# Altium footprint library Altium LCOGT PCB LIB.PCBLIB: 329 footprints (part 7 of 21)
Each footprint in its own frame and in the unit in brackets; x right, y up, seen from the top. Pads: shape width x height; smd on the part's side, far side on the other; paste and mask are expansions set on the pad; w line width, h text height; cw(c..) or ccw(c..) is an arc to the next point about the centre after c.
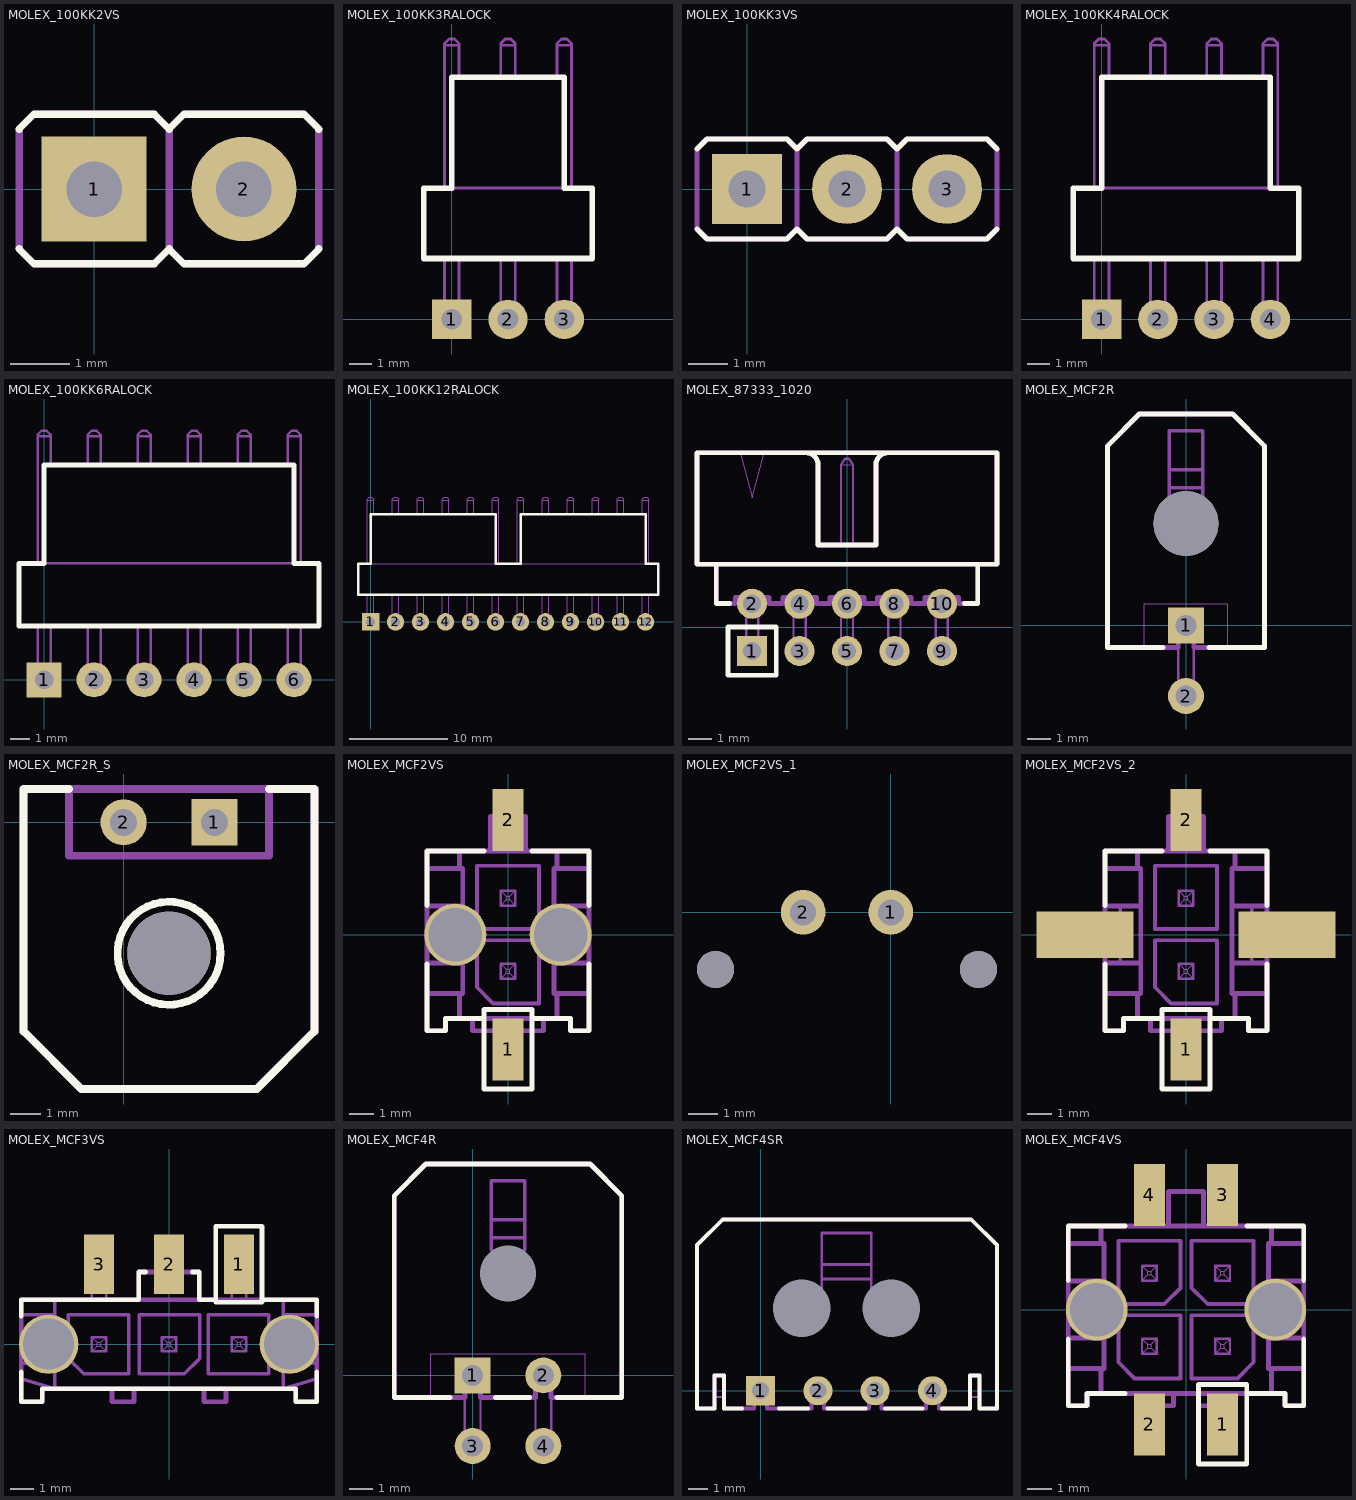
[diagram p6: the footprints below, top view; thin cyan lines are the x and y axes]

## MOLEX_100KK2VS [mil] "Molex KK header 2P 0.100 VERT"
pads (2):
  rect 70x70 hole 37: 1(0,0)
  round 70 hole 37: 2(100,0)
TopOverlay:
  lines w5: -50,-40 -40,-50 40,-50 50,-40 60,-50 140,-50 150,-40 ; -50,40 -40,50 40,50 50,40 60,50 140,50 150,40
Mechanical3:
  lines w5: 50,-40 50,40 ; 50,-40 40,-50 -40,-50 -50,-40 -50,0 -50,40 -40,50 40,50 50,40 ; 50,-40 60,-50 140,-50 150,-40 150,40 140,50 60,50 50,40

## MOLEX_100KK3RALOCK [mil] "Molex KK header 3P 0.100 R/A LOCK"
pads (3):
  rect 70x70 hole 37: 1(0,0)
  round 70 hole 37: 2(100,0) 3(200,0)
TopOverlay:
  lines w10: -50,108 -50,233 0,233 0,430 200,430 200,233 250,233 250,108 -50,108
Mechanical3:
  lines w5: -13,0 -13,108 ; -13,487 13,487 ; 0,233 0,430 200,430 200,233 ; 13,0 13,108 ; 13,430 13,484 13,490 5,498 0,498 -5,498 -13,490 -13,484 -13,233 ; 87,0 87,108 ; 87,430 87,484 87,490 95,498 100,498 105,498 113,490 113,484 113,430 ; 87,487 113,487 ; 113,0 113,108 ; 187,0 187,108 ; 187,430 187,484 187,490 195,498 200,498 205,498 213,490 213,484 213,233 ; 187,487 213,487 ; 213,0 213,108 ; -13,108 -50,108 -50,233 -13,233 ; -13,108 -3,108 4,108 14,108 87,108 ; -13,233 -3,233 87,233 97,233 113,233 123,233 250,233 250,108 123,108 113,108 ; 87,108 97,108 113,108

## MOLEX_100KK3VS [mil] "Molex KK header 3P 0.100 VERT"
pads (3):
  rect 70x70 hole 37: 1(0,0)
  round 70 hole 37: 2(100,0) 3(200,0)
TopOverlay:
  lines w5: -50,-40 -40,-50 40,-50 50,-40 60,-50 140,-50 150,-40 160,-50 240,-50 250,-40 ; -50,40 -40,50 40,50 50,40 60,50 140,50 150,40 160,50 240,50 250,40
Mechanical3:
  lines w5: 50,-40 50,40 ; 50,-40 40,-50 -40,-50 -50,-40 -50,0 -50,40 -40,50 40,50 50,40 ; 50,-40 60,-50 140,-50 150,-40 ; 50,40 60,50 140,50 150,40 ; 150,-40 160,-50 240,-50 250,-40 250,40 240,50 160,50 150,40 ; 150,-40 150,40 ; 150,-40 150,40

## MOLEX_100KK4RALOCK [mil] "Molex KK header 4P 0.100 R/A LOCK"
pads (4):
  rect 70x70 hole 37: 1(0,0)
  round 70 hole 37: 2(100,0) 3(200,0) 4(300,0)
TopOverlay:
  lines w10: -50,108 -50,233 0,233 0,430 300,430 300,233 350,233 350,108 -50,108
Mechanical3:
  lines w5: -13,0 -13,108 ; -13,487 13,487 ; 0,233 0,430 300,430 300,233 ; 13,0 13,108 ; 13,430 13,484 13,490 5,498 0,498 -5,498 -13,490 -13,484 -13,233 ; 87,0 87,108 ; 87,430 87,484 87,490 95,498 100,498 105,498 113,490 113,484 113,430 ; 87,487 113,487 ; 113,0 113,108 ; 187,0 187,108 ; 187,430 187,484 187,490 195,498 200,498 205,498 213,490 213,484 213,430 ; 187,487 213,487 ; 213,0 213,108 ; 287,0 287,108 ; 287,430 287,484 287,490 295,498 300,498 305,498 313,490 313,484 313,233 ; 287,487 313,487 ; 313,0 313,108 ; -13,108 -50,108 -50,233 -13,233 ; -13,108 -3,108 4,108 14,108 87,108 ; -13,233 -3,233 87,233 97,233 113,233 123,233 350,233 350,108 123,108 113,108 ; 87,108 97,108 113,108

## MOLEX_100KK6RALOCK [mil] "Molex KK header 6P 0.100 R/A LOCK"
pads (6):
  rect 70x70 hole 37: 1(0,0)
  round 70 hole 37: 2(100,0) 3(200,0) 4(300,0) 5(400,0) 6(500,0)
TopOverlay:
  lines w10: -50,108 550,108 550,233 500,233 500,430 0,430 0,233 -50,233 -50,108
Mechanical3:
  lines w5: -13,0 -13,108 ; -13,487 13,487 ; 0,233 0,430 500,430 500,233 ; 13,0 13,108 ; 13,430 13,484 13,490 5,498 0,498 -5,498 -13,490 -13,484 -13,233 ; 87,0 87,108 ; 87,430 87,484 87,490 95,498 100,498 105,498 113,490 113,484 113,430 ; 87,487 113,487 ; 113,0 113,108 ; 187,0 187,108 ; 187,430 187,484 187,490 195,498 200,498 205,498 213,490 213,484 213,430 ; 187,487 213,487 ; 213,0 213,108 ; 287,0 287,108 ; 287,430 287,484 287,490 295,498 300,498 305,498 313,490 313,484 313,430 ; 287,487 313,487 ; 313,0 313,108 ; 387,0 387,108 ; 387,430 387,484 387,490 395,498 400,498 405,498 413,490 413,484 413,430 ; 387,487 413,487 ; 413,0 413,108 ; 487,0 487,108 ; 487,430 487,484 487,490 495,498 500,498 505,498 513,490 513,484 513,233 ; 487,487 513,487 ; 513,0 513,108 ; -13,108 -3,108 4,108 14,108 87,108 ; -13,108 -50,108 -50,233 -13,233 ; -13,233 -3,233 87,233 97,233 113,233 123,233 550,233 550,108 123,108 113,108 ; 87,108 97,108 113,108

## MOLEX_100KK12RALOCK [mil] "Molex KK header 12P 0.100 R/A LOCK"
pads (12):
  rect 70x70 hole 37: 1(0,0)
  round 70 hole 37: 2(100,0) 3(200,0) 4(300,0) 5(400,0) 6(500,0) 7(600,0) 8(700,0) 9(800,0) 10(900,0) 11(1000,0) 12(1100,0)
TopOverlay:
  lines w10: -50,108 -50,233 0,233 0,430 500,430 500,233 550,233 600,233 600,430 1100,430 1100,233 1150,233 1150,108 550,108 -50,108
Mechanical3:
  drawing of 172 lines, arcs and shapes, not listed

## MOLEX_87333_1020 [mm]
pads (10):
  rect 1.27x1.27 hole 0.762: 1(-4,-1)
  round 1.27 hole 0.762: 2(-4,1) 3(-2,-1) 4(-2,1) 5(0,-1) 6(0,1) 7(2,-1) 8(2,1) 9(4,-1) 10(4,1)
TopOverlay:
  lines w0.203: -5.512,2.667 -5.512,1.016 -4.953,1.016 ; -1.727,7.366 cw(c-1.727,6.858) -1.219,6.858 -1.219,3.48 1.219,3.48 1.219,6.858 cw(c1.727,6.858) 1.727,7.366 ; 4.953,1.016 5.512,1.016 5.512,2.667 ; -6.325,2.667 6.325,2.667 6.325,7.366 -6.325,7.366 -6.325,2.667 ; -5.016,-2.016 -5.016,0.016 -2.984,0.016 -2.984,-2.016 -5.016,-2.016
Mechanical3:
  lines w0.051: -4.496,7.366 -3.988,5.461 -3.48,7.366 ; -0.254,6.858 0.254,6.858
  lines w0.102: -0.254,3.47 -0.254,6.858 -0.076,7.112 0.076,7.112 0.254,6.858 0.254,3.47 ; -4.254,-1.254 -3.746,-1.254 -3.746,1.254 -4.254,1.254 -4.254,-1.254 ; -2.254,-1.254 -1.746,-1.254 -1.746,1.254 -2.254,1.254 -2.254,-1.254 ; -0.254,-1.254 0.254,-1.254 0.254,1.254 -0.254,1.254 -0.254,-1.254 ; 1.746,-1.254 2.254,-1.254 2.254,1.254 1.746,1.254 1.746,-1.254 ; 3.746,-1.254 4.254,-1.254 4.254,1.254 3.746,1.254 3.746,-1.254
  lines w0.203: -5.512,2.667 -5.512,1.016 -4.711,1.016 -4.711,1.27 -3.289,1.27 -3.289,1.016 -2.711,1.016 -2.711,1.27 -1.289,1.27 -1.289,1.016 -0.711,1.016 -0.711,1.27 0.711,1.27 0.711,1.016 1.289,1.016 1.289,1.27 2.711,1.27 2.711,1.016 3.289,1.016 3.289,1.27 4.711,1.27 4.711,1.016 5.512,1.016 5.512,2.667 ; -1.727,7.366 cw(c-1.727,6.858) -1.219,6.858 -1.219,3.48 1.219,3.48 1.219,6.858 cw(c1.727,6.858) 1.727,7.366 ; -6.325,2.667 -6.325,7.366 6.325,7.366 6.325,2.667 -6.325,2.667

## MOLEX_MCF2R [mil]
pads (3):
  rect 60x60 hole 35: 1(0,0)
  round 60 hole 35: 2(0,-118)
  round 108.27 hole 108.27 unplated: ""(0,170)
TopOverlay:
  lines w8: -38,-37 -131,-37 -131,300 -78,353 78,353 131,300 131,-37 38,-37
Mechanical3:
  lines w2: -70,-37 -70,36 70,36 70,-37
  lines w4: -13,-37 -13,-131 13,-131 13,-37
  lines w6: -28,210 -28,230 ; -28,260 28,260 ; 28,210 28,230 ; -28,230 -28,325 28,325 28,230 ; -28,230 28,230
  lines w8: -131,-37 -131,300 -78,353 78,353 131,300 131,-37 13,-37 13,15 -13,15 -13,-37 -131,-37

## MOLEX_MCF2R_S [mil]
pads (3):
  rect 60x60 hole 35: 1(118.11,0)
  round 60 hole 35: 2(0.11,0)
  round 108.27 hole 108.27 unplated: ""(59.06,-170.08)
TopOverlay:
  circle w10: c59.06,-170.08 r66.93
  lines w10: -70.87,43.31 -129.92,43.31 -129.92,-271.65 -55.12,-346.46 173.23,-346.46 248.03,-271.65 248.03,43.31 188.98,43.31
Mechanical3:
  lines w10: -70.87,43.31 -70.87,-43.31 188.98,-43.31 188.98,43.31 ; -129.92,-271.65 -129.92,43.31 248.03,43.31 248.03,-271.65 173.23,-346.46 -55.12,-346.46 -129.92,-271.65

## MOLEX_MCF2VS [mil]
pads (4):
  rect 50x100 smd: 1(0,-185) 2(0,185)
  round 100 hole 86: ""(-85,0) ""(85,0)
TopOverlay:
  lines w8: -131,-47 -131,-155 -101,-155 -101,-135 -39,-135 ; -131,47 -131,135 -39,135 ; 39,-135 101,-135 101,-155 131,-155 131,-47 ; 39,135 131,135 131,47 ; -39,-249 -39,-121 39,-121 39,-249 -39,-249
Mechanical3:
  lines w2: -12,-71 -3,-62 ; -12,-47 -3,-56 ; -12,47 -3,56 ; -12,71 -3,62 ; 12,-71 3,-62 ; 12,-47 3,-56 ; 12,47 3,56 ; 12,71 3,62 ; -3,-62 3,-62 ; -3,-62 -3,-56 ; -3,-56 3,-56 ; -3,56 3,56 ; -3,56 -3,62 ; -3,62 3,62 ; 3,-62 3,-56 ; 3,56 3,62
  lines w4: -12,-135 -12,-195 ; -12,191 -12,195 ; 12,-135 12,-195 ; 12,191 12,195 ; -12,-195 -3,-215 3,-215 12,-195 ; -12,-195 12,-195 ; -12,195 -3,215 3,215 12,195 ; -12,195 12,195 ; -12,-71 12,-71 12,-47 -12,-47 -12,-71 ; -12,47 12,47 12,71 -12,71 -12,47
  lines w6: -131,-23 -106,-23 ; -131,23 -106,23 ; -106,-46 -106,46 ; 106,-46 106,46 ; 106,-23 131,-23 ; 106,23 131,23 ; -50,-85 -50,-9 50,-9 50,-111 -24,-111 -50,-85 ; -50,9 -50,111 50,111 50,9 -50,9
  lines w8: -131,-95 -78,-95 ; -131,-46 -73,-46 ; -131,46 -73,46 ; -131,107 -78,107 ; -78,-135 -78,-95 ; -78,135 -78,107 ; -57,-135 -57,-155 -20,-155 -20,-135 ; -28,135 -28,191 28,191 28,135 ; 20,-135 20,-155 57,-155 57,-135 ; 74,-46 131,-46 ; 74,46 131,46 ; 79,-135 79,-95 ; 79,135 79,107 ; 131,-95 79,-95 ; 131,107 79,107 ; -78,-95 -73,-95 -73,107 -78,107 ; 79,-95 74,-95 74,107 79,107 ; -131,-155 -101,-155 -101,-135 101,-135 101,-155 131,-155 131,135 -131,135 -131,-155

## MOLEX_MCF2VS_1 [mil] "MICROFIT 43650-0215/0216/0217"
height 390
pads (4):
  round 60 hole 35: 1(0,0) 2(-118,0)
  round 50 hole 50 unplated: ""(-236,-77) ""(118,-77)

## MOLEX_MCF2VS_2 [mil]
pads (4):
  rect 50x100 smd: 1(0,-185) 2(0,185)
  rect 156x75 smd: ""(-163,0) ""(163,0)
TopOverlay:
  lines w8: -131,-47 -131,-155 -101,-155 -101,-135 -39,-135 ; -131,47 -131,135 -39,135 ; 39,-135 101,-135 101,-155 131,-155 131,-47 ; 39,135 131,135 131,47 ; -39,-249 -39,-121 39,-121 39,-249 -39,-249
Mechanical3:
  lines w2: -12,-71 -3,-62 ; -12,-47 -3,-56 ; -12,47 -3,56 ; -12,71 -3,62 ; 12,-71 3,-62 ; 12,-47 3,-56 ; 12,47 3,56 ; 12,71 3,62 ; -3,-62 3,-62 ; -3,-62 -3,-56 ; -3,-56 3,-56 ; -3,56 3,56 ; -3,56 -3,62 ; -3,62 3,62 ; 3,-62 3,-56 ; 3,56 3,62
  lines w4: -12,-135 -12,-195 ; -12,191 -12,195 ; 12,-135 12,-195 ; 12,191 12,195 ; -12,-195 -3,-215 3,-215 12,-195 ; -12,-195 12,-195 ; -12,195 -3,215 3,215 12,195 ; -12,195 12,195 ; -12,-71 12,-71 12,-47 -12,-47 -12,-71 ; -12,47 12,47 12,71 -12,71 -12,47
  lines w5: -131,-25 -211,-25 -211,25 -131,25 ; 131,-25 211,-25 211,25 131,25
  lines w6: -131,-23 -106,-23 ; -131,23 -106,23 ; -106,-46 -106,46 ; 106,-46 106,46 ; 106,-23 131,-23 ; 106,23 131,23 ; -50,-85 -50,-9 50,-9 50,-111 -24,-111 -50,-85 ; -50,9 -50,111 50,111 50,9 -50,9
  lines w8: -131,-95 -78,-95 ; -131,-46 -73,-46 ; -131,46 -73,46 ; -131,107 -78,107 ; -78,-135 -78,-95 ; -78,135 -78,107 ; -57,-135 -57,-155 -20,-155 -20,-135 ; -28,135 -28,191 28,191 28,135 ; 20,-135 20,-155 57,-155 57,-135 ; 74,-46 131,-46 ; 74,46 131,46 ; 79,-135 79,-95 ; 79,135 79,107 ; 131,-95 79,-95 ; 131,107 79,107 ; -78,-95 -73,-95 -73,107 -78,107 ; 79,-95 74,-95 74,107 79,107 ; -131,-155 -101,-155 -101,-135 101,-135 101,-155 131,-155 131,135 -131,135 -131,-155
3D body: height 389.88, standoff -0.28, extent -210,-223 209.29,217.94

## MOLEX_MCF3VS [mil]
pads (5):
  rect 50x100 smd: 1(118,135) 2(0,135) 3(-118,135)
  round 100 hole 86: ""(-203,0) ""(203,0)
TopOverlay:
  lines w8: -249,-47 -249,-97 -214,-97 -214,-75 214,-75 214,-97 249,-97 249,-47 ; -249,47 -249,75 -51,75 -51,122 -39,122 ; 39,122 51,122 51,75 79,75 ; 157,75 249,75 249,47 ; 79,71 79,199 157,199 157,71 79,71
Mechanical3:
  lines w2: -130,-12 -121,-3 ; -130,12 -121,3 ; -106,-12 -115,-3 ; -106,12 -115,3 ; -12,-12 -3,-3 ; -12,12 -3,3 ; 12,-12 3,-3 ; 12,12 3,3 ; 106,-12 115,-3 ; 106,12 115,3 ; 130,-12 121,-3 ; 130,12 121,3 ; -121,-3 -115,-3 ; -121,-3 -121,3 ; -121,3 -115,3 ; -115,-3 -115,3 ; -3,-3 -3,3 ; -3,-3 3,-3 ; -3,3 3,3 ; 3,-3 3,3 ; 115,-3 115,3 ; 115,-3 121,-3 ; 115,3 121,3 ; 121,-3 121,3
  lines w4: -130,75 -130,145 ; -106,75 -106,145 ; -12,122 -12,145 ; 12,122 12,145 ; 106,75 106,145 ; 130,75 130,145 ; -130,145 -106,145 ; -130,145 -121,165 -115,165 -106,145 ; -12,145 12,145 ; -12,145 -3,165 3,165 12,145 ; 106,145 130,145 ; 106,145 115,165 121,165 130,145 ; -130,-12 -106,-12 -106,12 -130,12 -130,-12 ; -12,-12 -12,12 12,12 12,-12 -12,-12 ; 106,-12 106,12 130,12 130,-12 106,-12
  lines w6: -249,-58 -193,-75 -193,75 ; -249,-32 -193,-32 ; -249,50 -193,50 ; 193,-32 249,-32 ; 193,50 249,50 ; 193,75 193,-75 249,-58 ; -170,-24 -170,50 -68,50 -68,-50 -144,-50 -170,-24 ; -50,-50 -50,50 52,50 52,-24 26,-50 -50,-50 ; 66,-50 66,50 168,50 168,-50 66,-50
  lines w8: -96,-75 -96,-97 -59,-97 -59,-75 ; -51,75 -51,122 51,122 51,75 ; 59,-75 59,-97 96,-97 96,-75 ; -249,-97 -214,-97 -214,-75 214,-75 214,-97 249,-97 249,75 -249,75 -249,-97

## MOLEX_MCF4R [mil]
pads (5):
  rect 60x60 hole 35: 1(0,0)
  round 60 hole 35: 2(118,0) 3(0,-118) 4(118,-118)
  round 30 hole 93 unplated: ""(59,170)
TopOverlay:
  lines w8: -38,-37 -131,-37 -131,300 -78,353 196,353 249,300 249,-37 141,-37 ; 38,-37 95,-37
Mechanical3:
  lines w2: -70,-37 -70,36 188,36 188,-37
  lines w4: -13,-37 -13,-131 13,-131 13,-37 ; 105,-37 105,-131 131,-131 131,-37
  lines w6: 31,210 31,230 ; 31,260 87,260 ; 87,210 87,230 ; 31,230 87,230 ; 31,230 31,325 87,325 87,230
  lines w8: -131,-37 -13,-37 -13,15 13,15 13,-37 105,-37 105,15 131,15 131,-37 249,-37 249,300 196,353 -78,353 -131,300 -131,-37

## MOLEX_MCF4SR [mil]
pads (6):
  rect 60x60 hole 35: 1(0,0)
  round 60 hole 35: 2(118,0) 3(236,0) 4(354,0)
  round 30 hole 118 unplated: ""(85,170) ""(269,170)
TopOverlay:
  lines w8: -38,-37 -75,-37 -75,31 -95,31 -95,-37 -131,-37 -131,300 -78,353 434,353 487,300 487,-37 451,-37 451,31 431,31 431,-37 374,-37 ; 38,-37 98,-37 ; 138,-37 216,-37 ; 256,-37 334,-37
Mechanical3:
  lines w4: -95,-13 -75,-13 ; -13,-13 13,-13 ; 105,-13 131,-13 ; 223,-13 249,-13 ; 341,-13 367,-13 ; 431,-13 451,-13
  lines w6: 126,210 126,230 ; 126,260 228,260 ; 228,210 228,230 ; 126,230 126,325 228,325 228,230 ; 126,230 228,230
  lines w8: -131,-37 -131,300 -78,353 434,353 487,300 487,-37 451,-37 451,31 431,31 431,-37 367,-37 367,15 341,15 341,-37 249,-37 249,15 223,15 223,-37 131,-37 131,15 105,15 105,-37 13,-37 13,15 -13,15 -13,-37 -75,-37 -75,31 -95,31 -95,-37 -131,-37

## MOLEX_MCF4VS [mil]
pads (6):
  rect 50x100 smd: 1(59,-185) 2(-59,-185) 3(59,185) 4(-59,185)
  round 100 hole 86: ""(-144,0) ""(144,0)
TopOverlay:
  lines w8: -190,-47 -190,-155 -160,-155 -160,-135 -98,-135 ; -190,47 -190,135 -98,135 ; 98,-135 160,-135 160,-155 190,-155 190,-47 ; 98,135 190,135 190,47 ; 20,-249 20,-121 98,-121 98,-249 20,-249
Mechanical3:
  lines w2: -71,-71 -62,-62 ; -71,-47 -62,-56 ; -71,47 -62,56 ; -71,71 -62,62 ; -47,-71 -56,-62 ; -47,-47 -56,-56 ; -47,47 -56,56 ; -47,71 -56,62 ; 47,-71 56,-62 ; 47,-47 56,-56 ; 47,47 56,56 ; 47,71 56,62 ; 71,-71 62,-62 ; 71,-47 62,-56 ; 71,47 62,56 ; 71,71 62,62 ; -62,-62 -56,-62 ; -62,-62 -62,-56 ; -62,-56 -56,-56 ; -62,56 -62,62 ; -62,56 -56,56 ; -62,62 -56,62 ; -56,-62 -56,-56 ; -56,56 -56,62 ; 56,-62 56,-56 ; 56,-62 62,-62 ; 56,-56 62,-56 ; 56,56 62,56 ; 56,56 56,62 ; 56,62 62,62 ; 62,-62 62,-56 ; 62,56 62,62
  lines w4: -71,-135 -71,-195 ; -71,135 -71,195 ; -47,-155 -47,-195 ; -47,135 -47,195 ; 47,-155 47,-195 ; 47,135 47,195 ; 71,-135 71,-195 ; 71,135 71,195 ; -71,-195 -47,-195 ; -71,-195 -62,-215 -56,-215 -47,-195 ; -71,195 -47,195 ; -71,195 -62,215 -56,215 -47,195 ; 47,-195 71,-195 ; 47,-195 56,-215 62,-215 71,-195 ; 47,195 71,195 ; 47,195 56,215 62,215 71,195 ; -71,-71 -47,-71 -47,-47 -71,-47 -71,-71 ; -71,47 -71,71 -47,71 -47,47 -71,47 ; 47,-71 47,-47 71,-47 71,-71 47,-71 ; 47,47 71,47 71,71 47,71 47,47
  lines w6: -190,-23 -165,-23 ; -190,23 -165,23 ; -165,-46 -165,46 ; 165,-46 165,46 ; 165,-23 190,-23 ; 165,23 190,23 ; -109,-85 -109,-9 -9,-9 -9,-111 -83,-111 -109,-85 ; -109,9 -109,111 -9,111 -9,35 -35,9 -109,9 ; 9,-111 9,-9 109,-9 109,-85 83,-111 9,-111 ; 9,35 9,111 109,111 109,9 35,9 9,35
  lines w8: -190,-95 -137,-95 ; -190,-46 -132,-46 ; -190,46 -132,46 ; -190,107 -137,107 ; -137,-135 -137,-95 ; -137,135 -137,107 ; -57,-135 -57,-155 -20,-155 -20,-135 ; -28,135 -28,191 28,191 28,135 ; 20,-135 20,-155 57,-155 57,-135 ; 133,-46 190,-46 ; 133,46 190,46 ; 138,-135 138,-95 ; 138,135 138,107 ; 190,-95 138,-95 ; 190,107 138,107 ; -137,-95 -132,-95 -132,107 -137,107 ; 138,-95 133,-95 133,107 138,107 ; -190,-155 -160,-155 -160,-135 160,-135 160,-155 190,-155 190,135 -190,135 -190,-155